# EAGLE library part DF13-10P (library OSSI)
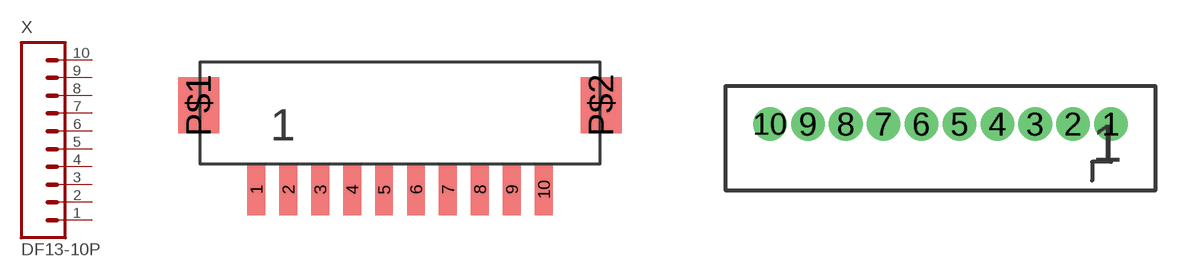
[diagram p54: symbol with the pads of DF13A-10P; footprints DF13A-10P, DF13-10P-1.25DSA]

Designator prefix X

## DF13-10PA  [DF13A-10P]
1  1  pas
2  2  pas
3  3  pas
4  4  pas
5  5  pas
6  6  pas
7  7  pas
8  8  pas
9  9  pas
10  10  pas

## DF13-10P-1.25DSA  [DF13-10P-1.25DSA]
Pads as for DF13A-10P

## Footprint DF13A-10P (pad centres in mm)
smd 0.7 x 2: 1 -5.625,0; 2 -4.375,0; 3 -3.125,0; 4 -1.875,0; 5 -0.625,0; 6 0.625,0; 7 1.875,0; 8 3.125,0; 9 4.375,0; 10 5.625,0
smd 1.6 x 2.2: P$1 -7.875,3.3; P$2 7.875,3.3

## Footprint DF13-10P-1.25DSA (pad centres in mm)
drill 0.6: 1 5.625,0; 2 4.375,0; 3 3.125,0; 4 1.875,0; 5 0.625,0; 6 -0.625,0; 7 -1.875,0; 8 -3.125,0; 9 -4.375,0; 10 -5.625,0